# Altium footprint library 1.06-保险丝.PcbLib: 18 footprints (part 2 of 2)
Each footprint in its own frame and in the unit in brackets; x right, y up, seen from the top. Pads: shape width x height; smd on the part's side, far side on the other; paste and mask are expansions set on the pad; w line width, h text height; cw(c..) or ccw(c..) is an arc to the next point about the centre after c.
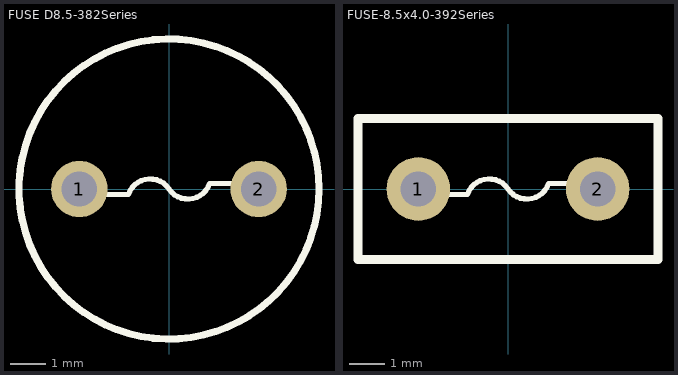
[diagram p1: the footprints below, top view; thin cyan lines are the x and y axes]

## FUSE D8.5-382Series [mil] "Littelfuse 382系列Φ8.5cm圆形保险管"
pads (2):
  round 63 hole 39.4 mask+2: 1(-100,0) 2(100,0)
Top Overlay:
  circle w8: c0,0 r167.3
  lines w6: -69.79,-6.13 -45.29,-6.13 cw(c-21.13,-14.27) 0,0 ccw(c21.13,14.27) 45.29,6.13 100,6.13
3D body: height 303.1, standoff -98.45, extent -165.35,-165.13 165.35,165.15

## FUSE-8.5x4.0-392Series [mm] "Littelfuse 392系列8.5x4.0cm方形保险管"
pads (2):
  round 1.801 hole 1.001 mask+0.051: 1(-2.54,0) 2(2.54,0)
Top Overlay:
  lines w0.152: -1.772,-0.156 -1.15,-0.156 cw(c-0.536,-0.362) 0,0 ccw(c0.537,0.362) 1.151,0.156 2.54,0.156
  lines w0.254: -4.249,-1.999 4.249,-1.999 4.249,1.999 -4.249,1.999 -4.249,-1.999
3D body: height 8.1, standoff -2.9, extent -4.25,-2 4.25,2